# EAGLE library part RK16816MG (library dreimalbe)
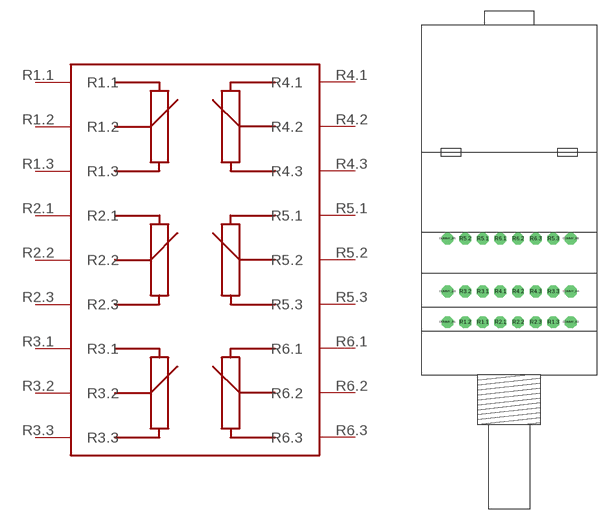
[diagram p2: symbol with the pads of RK16816MG; footprint RK16816MG]

Designator prefix -

## RK16816MG  [RK16816MG]
R1.1  R1.1
R1.2  R1.2
R1.3  R1.3
R2.1  R2.1
R2.2  R2.2
R2.3  R2.3
R3.1  R3.1
R3.2  R3.2
R3.3  R3.3
R4.1  R4.1
R4.2  R4.2
R4.3  R4.3
R5.1  R5.1
R5.2  R5.2
R5.3  R5.3
R6.1  R6.1
R6.2  R6.2
R6.3  R6.3

## Footprint RK16816MG (pad centres in mm)
drill 1 pad 1.676 octagon: DUMMY_R1 -8.75,0; DUMMY_R3 -8.75,4.35; DUMMY_R4 8.75,4.35; DUMMY_R5 -8.75,11.85; DUMMY_R6 8.75,11.85; R1.1 -3.75,0; R1.2 -6.25,0; R1.3 6.25,0; R2.1 -1.25,0; R2.2 1.25,0; R2.3 3.75,0; R3.1 -3.75,4.35; R3.2 -6.25,4.35; R3.3 6.25,4.35; R4.1 -1.25,4.35; R4.2 1.25,4.35; R4.3 3.75,4.35; R5.1 -3.75,11.85; R5.2 -6.25,11.85; R5.3 6.25,11.85; R6.1 -1.25,11.85; R6.2 1.25,11.85; R6.3 3.75,11.85
drill 1.1 pad 1.676 octagon: DUMMY_R2 8.75,0